# Altium footprint library UF4 Series - Vertical.PcbLib: 8 footprints
Each footprint in its own frame and in the unit in brackets; x right, y up, seen from the top. Pads: shape width x height; smd on the part's side, far side on the other; paste and mask are expansions set on the pad; w line width, h text height; cw(c..) or ccw(c..) is an arc to the next point about the centre after c.
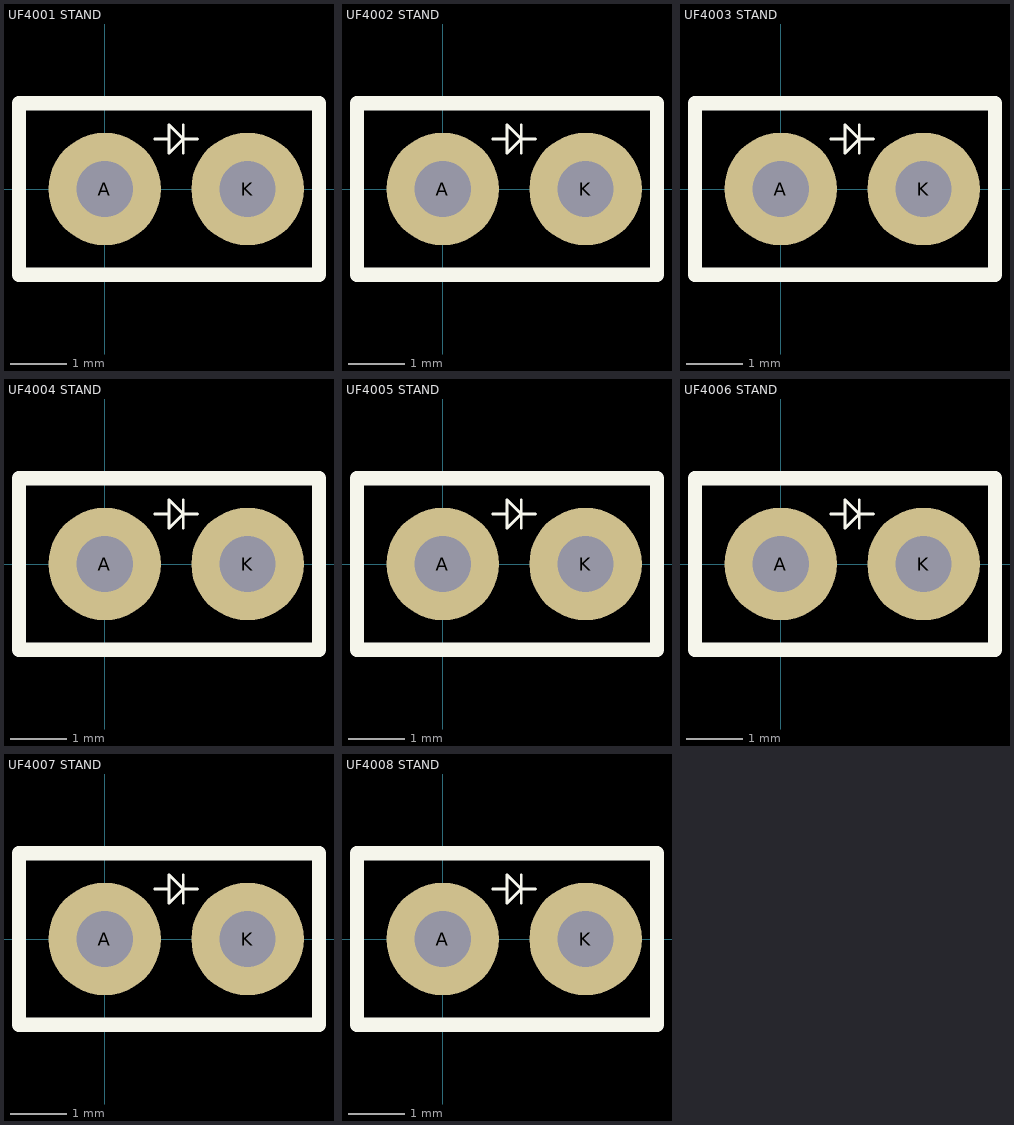
[diagram p0: the footprints below, top view; thin cyan lines are the x and y axes]

## UF4001 STAND [mm] "Diode Standard 50V 1A Through Hole DO-204AL (DO-41)"
pads (2):
  round 2 hole 1: A(0,0) K(2.54,0)
Top Overlay:
  lines w0.051: 0.889,0.889 1.143,0.889 ; 1.397,0.635 1.397,1.143 ; 1.651,0.889 1.397,0.889 ; 1.143,0.889 1.143,0.635 1.397,0.889 ; 1.143,0.889 1.143,1.143 1.397,0.889
  lines w0.254: -1.524,-1.524 3.81,-1.524 3.81,1.524 -1.524,1.524 -1.524,-1.524
3D body "User Library-1N4007_Stand.step": height 6.41, standoff -1.99, extent -1.334,-1.334 2.934,1.333

## UF4002 STAND [mm] "Diode Standard 100V 1A Through Hole DO-204AL (DO-41)"
pads (2):
  round 2 hole 1: A(0,0) K(2.54,0)
Top Overlay:
  lines w0.051: 0.889,0.889 1.143,0.889 ; 1.397,0.635 1.397,1.143 ; 1.651,0.889 1.397,0.889 ; 1.143,0.889 1.143,0.635 1.397,0.889 ; 1.143,0.889 1.143,1.143 1.397,0.889
  lines w0.254: -1.524,-1.524 3.81,-1.524 3.81,1.524 -1.524,1.524 -1.524,-1.524
3D body "User Library-1N4007_Stand.step": height 6.41, standoff -1.99, extent -1.334,-1.334 2.934,1.333

## UF4003 STAND [mm] "Diode Standard 200V 1A Through Hole DO-204AL (DO-41)"
pads (2):
  round 2 hole 1: A(0,0) K(2.54,0)
Top Overlay:
  lines w0.051: 0.889,0.889 1.143,0.889 ; 1.397,0.635 1.397,1.143 ; 1.651,0.889 1.397,0.889 ; 1.143,0.889 1.143,0.635 1.397,0.889 ; 1.143,0.889 1.143,1.143 1.397,0.889
  lines w0.254: -1.524,-1.524 3.81,-1.524 3.81,1.524 -1.524,1.524 -1.524,-1.524
3D body "User Library-1N4007_Stand.step": height 6.41, standoff -1.99, extent -1.334,-1.334 2.934,1.333

## UF4004 STAND [mm] "Diode Standard 400V 1A Through Hole DO-204AL (DO-41)"
pads (2):
  round 2 hole 1: A(0,0) K(2.54,0)
Top Overlay:
  lines w0.051: 0.889,0.889 1.143,0.889 ; 1.397,0.635 1.397,1.143 ; 1.651,0.889 1.397,0.889 ; 1.143,0.889 1.143,0.635 1.397,0.889 ; 1.143,0.889 1.143,1.143 1.397,0.889
  lines w0.254: -1.524,-1.524 3.81,-1.524 3.81,1.524 -1.524,1.524 -1.524,-1.524
3D body "User Library-1N4007_Stand.step": height 6.41, standoff -1.99, extent -1.334,-1.334 2.934,1.333

## UF4005 STAND [mm] "Diode Standard 600V 1A Through Hole DO-204AL (DO-41)"
pads (2):
  round 2 hole 1: A(0,0) K(2.54,0)
Top Overlay:
  lines w0.051: 0.889,0.889 1.143,0.889 ; 1.397,0.635 1.397,1.143 ; 1.651,0.889 1.397,0.889 ; 1.143,0.889 1.143,0.635 1.397,0.889 ; 1.143,0.889 1.143,1.143 1.397,0.889
  lines w0.254: -1.524,-1.524 3.81,-1.524 3.81,1.524 -1.524,1.524 -1.524,-1.524
3D body "User Library-1N4007_Stand.step": height 6.41, standoff -1.99, extent -1.334,-1.334 2.934,1.333

## UF4006 STAND [mm] "Diode Standard 800V 1A Through Hole DO-204AL (DO-41)"
pads (2):
  round 2 hole 1: A(0,0) K(2.54,0)
Top Overlay:
  lines w0.051: 0.889,0.889 1.143,0.889 ; 1.397,0.635 1.397,1.143 ; 1.651,0.889 1.397,0.889 ; 1.143,0.889 1.143,0.635 1.397,0.889 ; 1.143,0.889 1.143,1.143 1.397,0.889
  lines w0.254: -1.524,-1.524 3.81,-1.524 3.81,1.524 -1.524,1.524 -1.524,-1.524
3D body "User Library-1N4007_Stand.step": height 6.41, standoff -1.99, extent -1.334,-1.334 2.934,1.333

## UF4007 STAND [mm] "Diode Standard 1000V 1A Through Hole DO-204AL (DO-41)"
pads (2):
  round 2 hole 1: A(0,0) K(2.54,0)
Top Overlay:
  lines w0.051: 0.889,0.889 1.143,0.889 ; 1.397,0.635 1.397,1.143 ; 1.651,0.889 1.397,0.889 ; 1.143,0.889 1.143,0.635 1.397,0.889 ; 1.143,0.889 1.143,1.143 1.397,0.889
  lines w0.254: -1.524,-1.524 3.81,-1.524 3.81,1.524 -1.524,1.524 -1.524,-1.524
3D body "User Library-1N4007_Stand.step": height 6.41, standoff -1.99, extent -1.334,-1.334 2.934,1.333

## UF4008 STAND [mm] "Diode Standard 1000V 1A Through Hole DO-41"
pads (2):
  round 2 hole 1: A(0,0) K(2.54,0)
Top Overlay:
  lines w0.051: 0.889,0.889 1.143,0.889 ; 1.397,0.635 1.397,1.143 ; 1.651,0.889 1.397,0.889 ; 1.143,0.889 1.143,0.635 1.397,0.889 ; 1.143,0.889 1.143,1.143 1.397,0.889
  lines w0.254: -1.524,-1.524 3.81,-1.524 3.81,1.524 -1.524,1.524 -1.524,-1.524
3D body "User Library-1N4007_Stand.step": height 6.41, standoff -1.99, extent -1.334,-1.334 2.934,1.333